# EAGLE library part ATMEGA32U4-AUR (library I'mRADIOactive)
ATmega Series 16 MHz 32 KB Flash 2.5 KB SRAM 8-Bit Microcontroller - TQFP-44
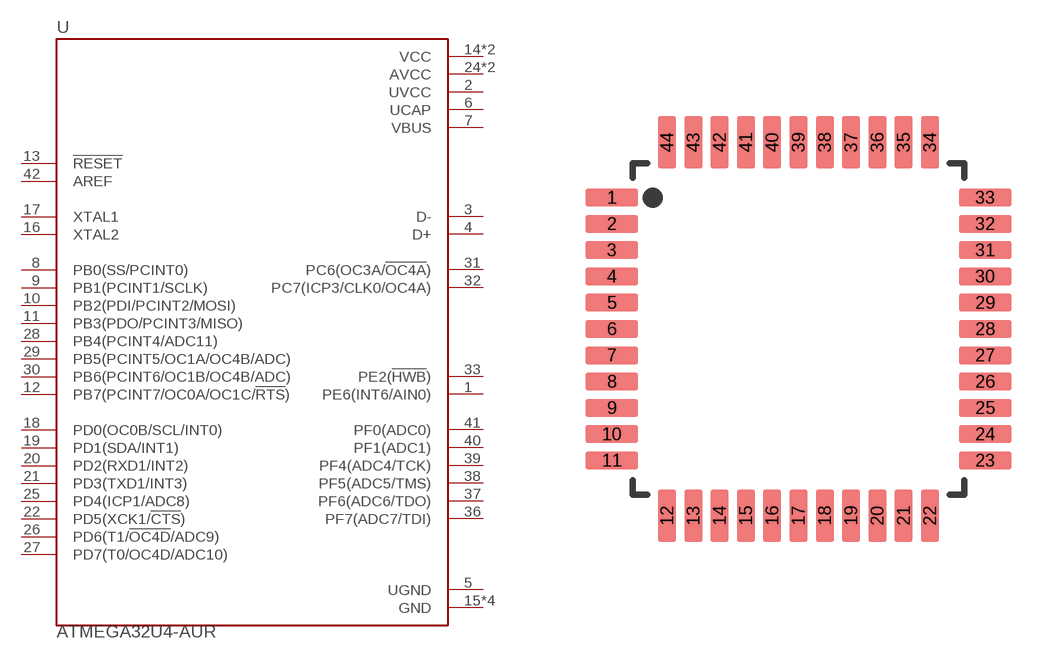
[diagram p4: symbol with the pads of 44-TQFP(10X10); footprint 44-TQFP(10X10)]

Designator prefix U

## ATMEGA32U4-AUR (DKPN: ATMEGA32U4-AURDKR-ND)  [44-TQFP(10X10)]
1  PE6(INT6/AIN0)  pas
2  UVCC  pas
3  D-  pas
4  D+  pas
5  UGND  pas
6  UCAP  pas
7  VBUS  pas
8  PB0(SS/PCINT0)  pas
9  PB1(PCINT1/SCLK)  pas
10  PB2(PDI/PCINT2/MOSI)  pas
11  PB3(PDO/PCINT3/MISO)  pas
12  PB7(PCINT7/OC0A/OC1C/!RTS!)  pas
13  !RESET  pas
14  VCC  pas
15  GND  pas
16  XTAL2  pas
17  XTAL1  pas
18  PD0(OC0B/SCL/INT0)  pas
19  PD1(SDA/INT1)  pas
20  PD2(RXD1/INT2)  pas
21  PD3(TXD1/INT3)  pas
22  PD5(XCK1/!CTS!)  pas
23  GND  pas
24  AVCC  pas
25  PD4(ICP1/ADC8)  pas
26  PD6(T1/!OC4D!/ADC9)  pas
27  PD7(T0/OC4D/ADC10)  pas
28  PB4(PCINT4/ADC11)  pas
29  PB5(PCINT5/OC1A/OC4B/ADC)  pas
30  PB6(PCINT6/OC1B/OC4B/ADC)  pas
31  PC6(OC3A/!OC4A!)  pas
32  PC7(ICP3/CLK0/OC4A)  pas
33  PE2(!HWB!)  pas
34  VCC  pas
35  GND  pas
36  PF7(ADC7/TDI)  pas
37  PF6(ADC6/TDO)  pas
38  PF5(ADC5/TMS)  pas
39  PF4(ADC4/TCK)  pas
40  PF1(ADC1)  pas
41  PF0(ADC0)  pas
42  AREF  pas
43  GND  pas
44  AVCC  pas

## Footprint 44-TQFP(10X10) (pad centres in mm)
Datasheet <http://ww1.microchip.com/downloads/en/DeviceDoc/Atmel-7766-8-bit-AVR-ATmega16U4-32U4_Summary.pdf>
smd 1.6 x 0.55: 1 -5.68,4; 2 -5.68,3.2; 3 -5.68,2.4; 4 -5.68,1.6; 5 -5.68,0.8; 6 -5.68,0; 7 -5.68,-0.8; 8 -5.68,-1.6; 9 -5.68,-2.4; 10 -5.68,-3.2; 11 -5.68,-4; 23 5.68,-4; 24 5.68,-3.2; 25 5.68,-2.4; 26 5.68,-1.6; 27 5.68,-0.8; 28 5.68,0; 29 5.68,0.8; 30 5.68,1.6; 31 5.68,2.4; 32 5.68,3.2; 33 5.68,4
smd 0.55 x 1.6: 12 -4,-5.68; 13 -3.2,-5.68; 14 -2.4,-5.68; 15 -1.6,-5.68; 16 -0.8,-5.68; 17 0,-5.68; 18 0.8,-5.68; 19 1.6,-5.68; 20 2.4,-5.68; 21 3.2,-5.68; 22 4,-5.68; 34 4,5.68; 35 3.2,5.68; 36 2.4,5.68; 37 1.6,5.68; 38 0.8,5.68; 39 0,5.68; 40 -0.8,5.68; 41 -1.6,5.68; 42 -2.4,5.68; 43 -3.2,5.68; 44 -4,5.68